# EAGLE library part MPU-9250-BREAKOUT (library Modules)
MPU-9250 is an IMU (Inertial Measurement Unit) having 9 DoF axes. This is a breakout board for Arduino.
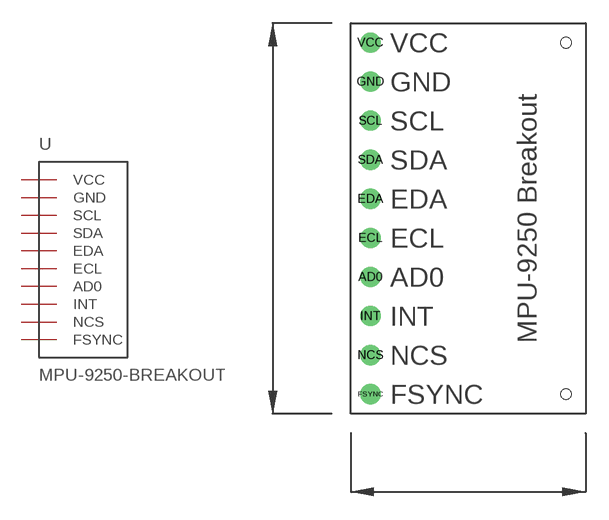
[diagram p1: symbol with the pads of MPU-9250-BREAKOUT; footprint MPU-9250-BREAKOUT]

Designator prefix -

## MPU-9250-BREAKOUT  [MPU-9250-BREAKOUT]
AD0  AD0
ECL  ECL
EDA  EDA
FSYNC  FSYNC
GND  GND
INT  INT
NCS  NCS
SCL  SCL
SDA  SDA
VCC  VCC

## Footprint MPU-9250-BREAKOUT (pad centres in mm)
drill 0.8: AD0 -2.54,-3.81; ECL -2.54,-1.27; EDA -2.54,1.27; FSYNC -2.54,-11.43; GND -2.54,8.89; INT -2.54,-6.35; NCS -2.54,-8.89; SCL -2.54,6.35; SDA -2.54,3.81; VCC -2.54,11.43
hole 0.7 at 10.16,11.43
hole 0.7 at 10.16,-11.43